# Altium schematic symbol library DIODE,Schottky,20V,1A,SOD523.Schlib: 1 symbol
Pins are listed as number, name and electrical type; pins without a type are passive.

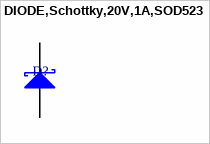
[diagram p0: symbol DIODE,Schottky,20V,1A,SOD523]

## DIODE,Schottky,20V,1A,SOD523
designator D?
pins: 1 K, 2 A